# Altium schematic symbol library 元件库.SchLib: 2 symbols
Pins are listed as number, name and electrical type; pins without a type are passive.

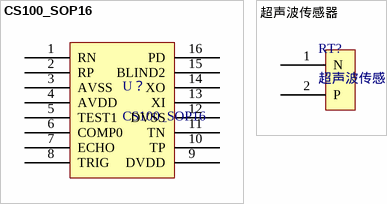
[diagram p0: symbols CS100_SOP16 to 超声波传感器]

## CS100_SOP16
designator U？
超声波收发芯片
footprint SOP16 (封装库来自淘宝卖家 ID：黄晶宝石)
pins: 1 RN, 2 RP, 3 AVSS, 4 AVDD, 5 TEST1, 6 COMP0, 7 ECHO, 8 TRIG, 9 DVDD, 10 TP, 11 TN, 12 DVSS, 13 XI, 14 XO, 15 BLIND2, 16 PD

## 超声波传感器
designator RT?
footprint RT
pins: 1 N, 2 P